# Altium schematic symbol library user.SchLib: 12 symbols
Pins are listed as number, name and electrical type; pins without a type are passive.

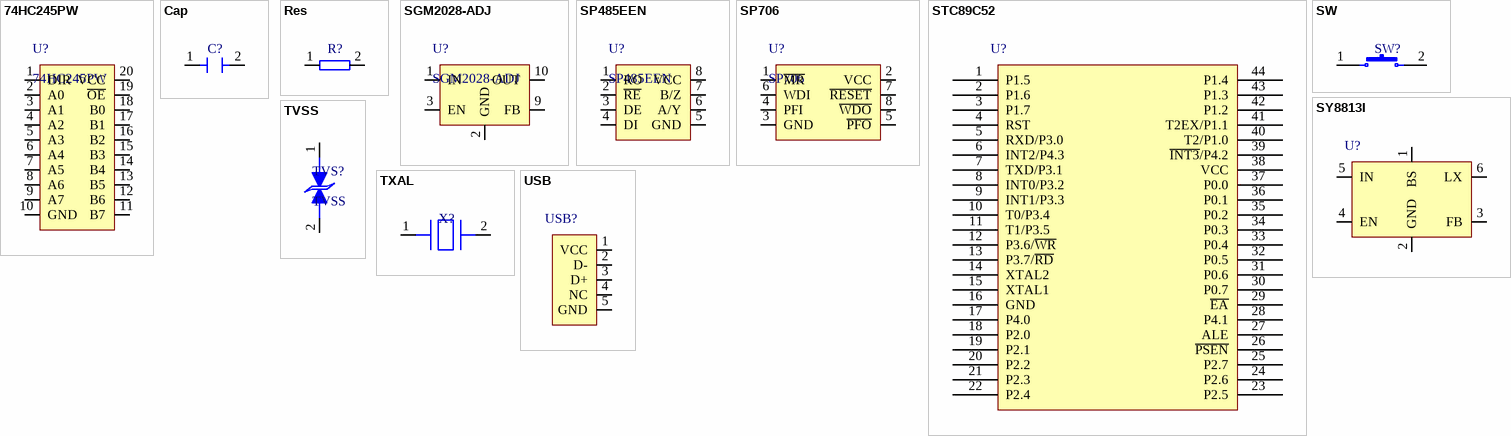
[diagram p0: symbols 74HC245PW to USB]

## 74HC245PW
designator U?
pins: 1 DIR, 2 A0, 3 A1, 4 A2, 5 A3, 6 A4, 7 A5, 8 A6, 9 A7, 10 GND, 11 B7, 12 B6, 13 B5, 14 B4, 15 B3, 16 B2, 17 B1, 18 B0, 19 ~{OE}, 20 VCC

## Cap
designator C?  (value not drawn)
footprint C0603 (Footprint not found)
footprint Model Name (Footprint not found)
pins: 1, 2

## Res
designator R?  (value not drawn)
footprint R0603 (Footprint not found)
pins: 1, 2

## SGM2028-ADJ
designator U?
pins: 1 IN, 2 GND, 3 EN, 9 FB, 10 OUT

## SP485EEN
designator U?
pins: 1 RO, 2 ~{RE}, 3 DE, 4 DI, 5 GND, 6 A/Y, 7 B/Z, 8 VCC

## SP706
designator U?
pins: 1 ~{MR}, 2 VCC, 3 GND, 4 PFI, 5 ~{PFO}, 6 WDI, 7 ~{RESET}, 8 ~{WDO}

## STC89C52
designator U?  (value not drawn)
footprint LQFP-44 (Footprint not found)
pins: 1 P1.5, 2 P1.6, 3 P1.7, 4 RST, 5 RXD/P3.0, 6 INT2/P4.3, 7 TXD/P3.1, 8 INT0/P3.2, 9 INT1/P3.3, 10 T0/P3.4, 11 T1/P3.5, 12 P3.6/~{WR}, 13 P3.7/~{RD}, 14 XTAL2, 15 XTAL1, 16 GND, 17 P4.0, 18 P2.0, 19 P2.1, 20 P2.2, 21 P2.3, 22 P2.4, 23 P2.5, 24 P2.6, 25 P2.7, 26 ~{PSEN}, 27 ALE, 28 P4.1, 29 ~{EA}, 30 P0.7, 31 P0.6, 32 P0.5, 33 P0.4, 34 P0.3, 35 P0.2, 36 P0.1, 37 P0.0, 38 VCC, 39 ~{INT3}/P4.2, 40 T2/P1.0, 41 T2EX/P1.1, 42 P1.2, 43 P1.3, 44 P1.4

## SW
designator SW?  (value not drawn)
pins: 1, 2

## SY8813I
designator U?  (value not drawn)
pins: 1 BS, 2 GND, 3 FB, 4 EN, 5 IN, 6 LX

## TVSS
designator TVS?
pins: 1, 2

## TXAL
designator X?  (value not drawn)
pins: 1, 2

## USB
designator USB?  (value not drawn)
pins: 1 VCC, 2 D-, 3 D+, 4 NC, 5 GND